# EAGLE library part TSW-S-32_S (library con-samtec-tsw)
HEADER
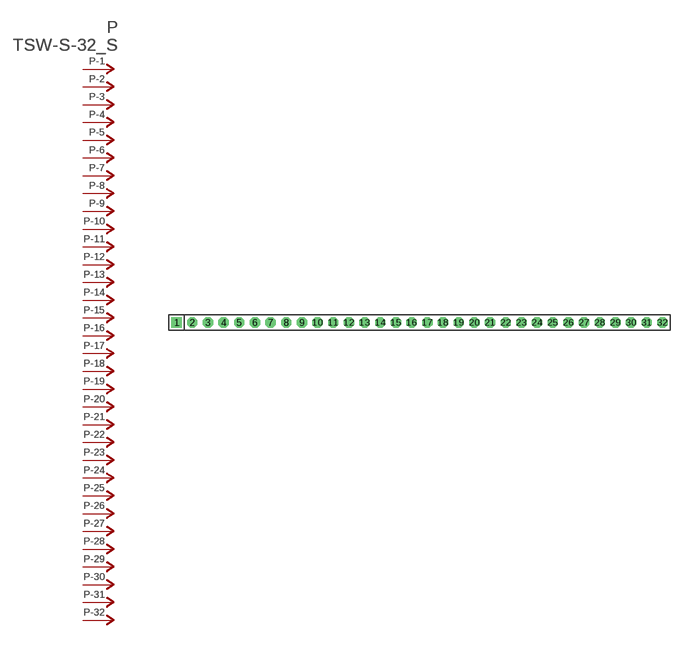
[diagram p71: symbol with the pads of TSW-S-32; footprint TSW-S-32]

Designator prefix P; gates -1=P-NV -2=P-N -3=P-N -4=P-N -5=P-N -6=P-N -7=P-N -8=P-N -9=P-N -10=P-N -11=P-N -12=P-N -13=P-N -14=P-N -15=P-N -16=P-N -17=P-N -18=P-N -19=P-N -20=P-N -21=P-N -22=P-N -23=P-N -24=P-N -25=P-N -26=P-N -27=P-N -28=P-N -29=P-N -30=P-N -31=P-N -32=P-N

## TSW-S-32_S  [TSW-S-32]
1  -1:P  pas
2  -2:P  pas
3  -3:P  pas
4  -4:P  pas
5  -5:P  pas
6  -6:P  pas
7  -7:P  pas
8  -8:P  pas
9  -9:P  pas
10  -10:P  pas
11  -11:P  pas
12  -12:P  pas
13  -13:P  pas
14  -14:P  pas
15  -15:P  pas
16  -16:P  pas
17  -17:P  pas
18  -18:P  pas
19  -19:P  pas
20  -20:P  pas
21  -21:P  pas
22  -22:P  pas
23  -23:P  pas
24  -24:P  pas
25  -25:P  pas
26  -26:P  pas
27  -27:P  pas
28  -28:P  pas
29  -29:P  pas
30  -30:P  pas
31  -31:P  pas
32  -32:P  pas

## Footprint TSW-S-32 (pad centres in mm)
HEADER
drill 0.914 pad 1.676 square: 1 -39.37,0
drill 0.914 pad 1.676 octagon: 2 -36.83,0; 3 -34.29,0; 4 -31.75,0; 5 -29.21,0; 6 -26.67,0; 7 -24.13,0; 8 -21.59,0; 9 -19.05,0; 10 -16.51,0; 11 -13.97,0; 12 -11.43,0; 13 -8.89,0; 14 -6.35,0; 15 -3.81,0; 16 -1.27,0; 17 1.27,0; 18 3.81,0; 19 6.35,0; 20 8.89,0; 21 11.43,0; 22 13.97,0; 23 16.51,0; 24 19.05,0; 25 21.59,0; 26 24.13,0; 27 26.67,0; 28 29.21,0; 29 31.75,0; 30 34.29,0; 31 36.83,0; 32 39.37,0